# EAGLE library part ACS711 (library dawidkulpa_dev)
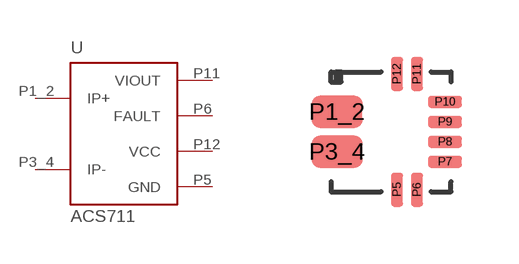
[diagram p30: symbol with the pads of EX-QFN-12; footprint EX-QFN-12]

Designator prefix -

## ACS711  [EX-QFN-12]
P1_2  IP+
P3_4  IP-
P5  GND
P6  FAULT
P11  VIOUT
P12  VCC

## Footprint EX-QFN-12 (pad centres in mm)
smd 1.27 x 0.8: P1_2 -1.35,0.5; P3_4 -1.35,-0.5
smd 0.3 x 0.85: P5 0.15,-1.45; P6 0.65,-1.45; P11 0.65,1.45; P12 0.15,1.45
smd 0.85 x 0.3: P7 1.35,-0.75; P8 1.35,-0.25; P9 1.35,0.25; P10 1.35,0.75